# Altium footprint library HD301_driver.PcbLib: 20 footprints (part 1 of 2)
Each footprint in its own frame and in the unit in brackets; x right, y up, seen from the top. Pads: shape width x height; smd on the part's side, far side on the other; paste and mask are expansions set on the pad; w line width, h text height; cw(c..) or ccw(c..) is an arc to the next point about the centre after c.
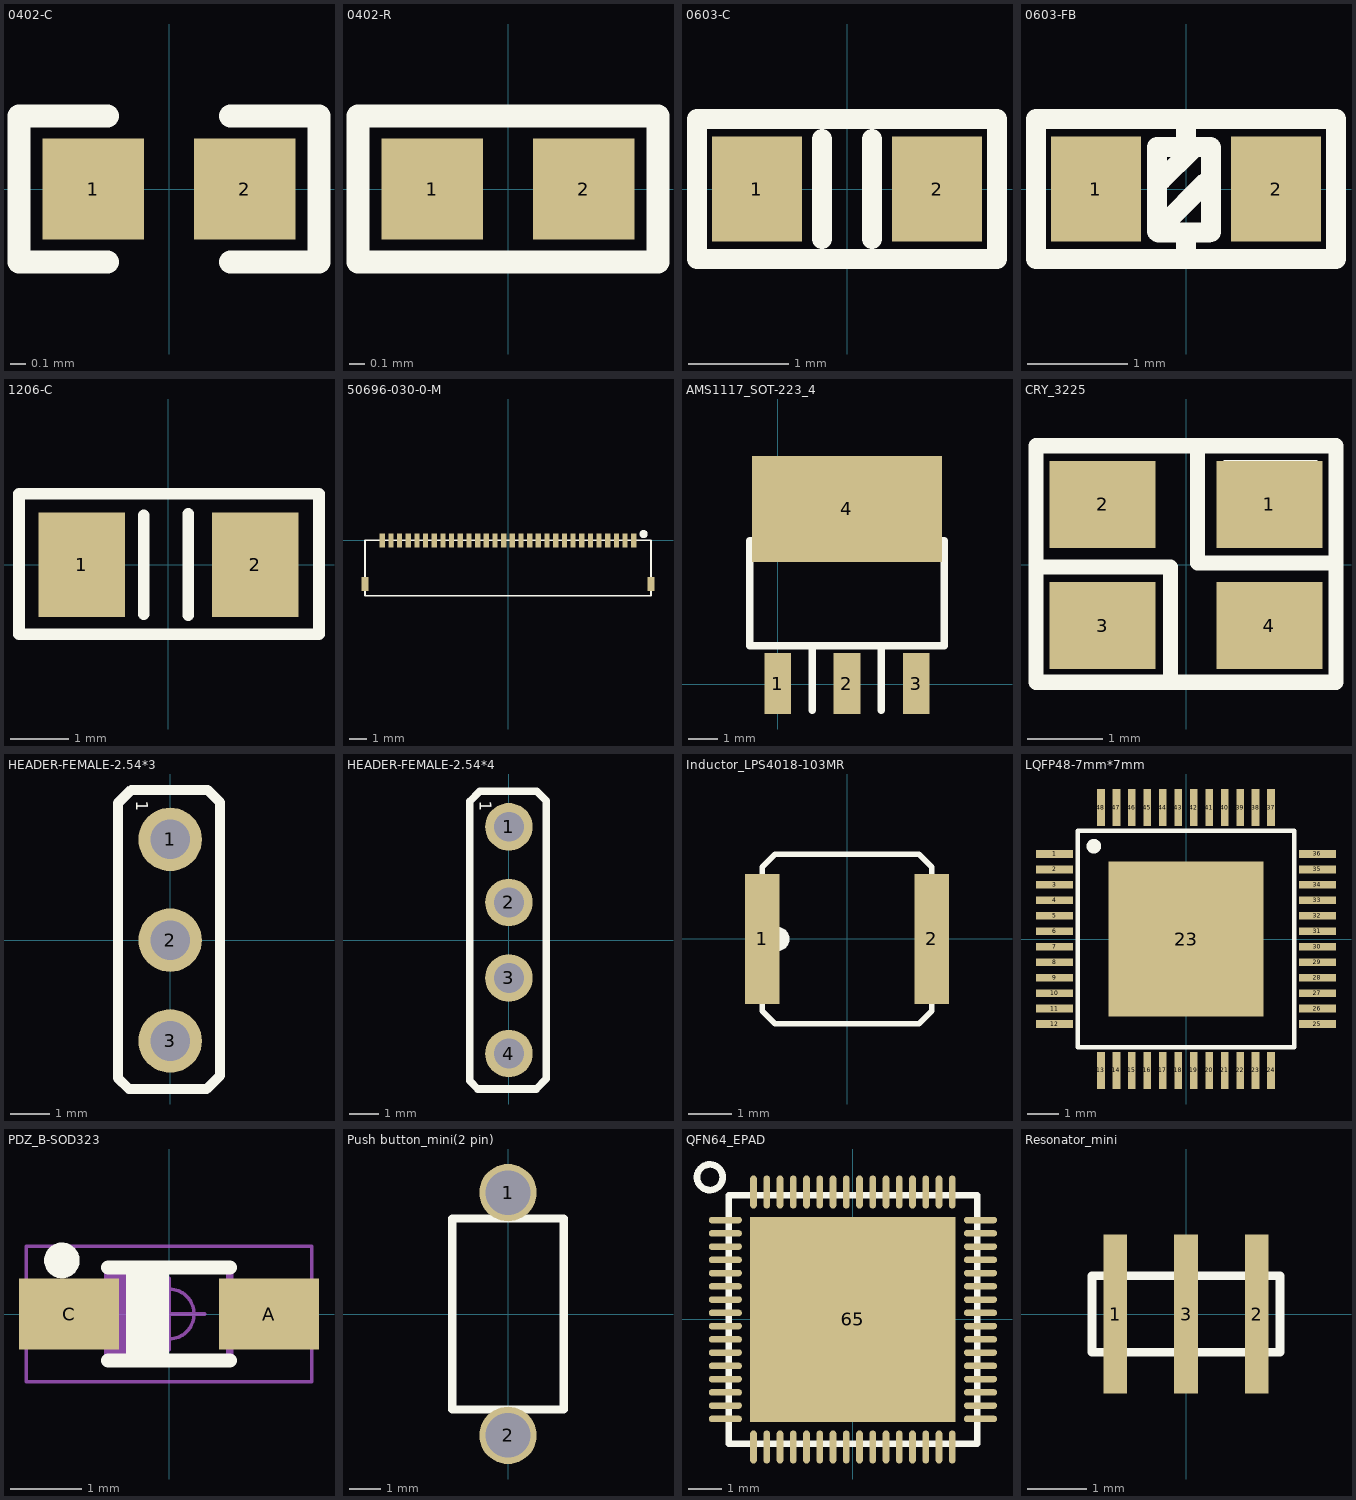
[diagram p0: the footprints below, top view; thin cyan lines are the x and y axes]

## 0402-C [mm]
pads (2):
  rect 0.67x0.67 smd: 1(-0.5,0) 2(0.5,0)
Top Overlay:
  lines w0.15: -0.406,-0.483 -0.991,-0.483 -0.991,0.483 -0.406,0.483 ; 0.406,-0.483 0.991,-0.483 0.991,0.483 0.406,0.483

## 0402-R [mm]
pads (2):
  rect 0.67x0.67 smd: 1(-0.5,0) 2(0.5,0)
Top Overlay:
  lines w0.15: -0.991,-0.483 0.991,-0.483 0.991,0.483 -0.991,0.483 -0.991,-0.483

## 0603-C [mm]
pads (2):
  rect 0.9x1.05 smd mask+0.05: 1(-0.9,0) 2(0.9,0)
Top Overlay:
  lines w0.2: -0.25,-0.5 -0.25,0.5 ; 0.25,-0.5 0.25,0.5 ; -1.5,-0.7 1.5,-0.7 1.5,0.7 -1.5,0.7 -1.5,-0.7

## 0603-FB [mm]
pads (2):
  rect 0.9x1.05 smd mask+0.05: 1(-0.9,0) 2(0.9,0)
Top Overlay:
  lines w0.2: -0.292,-0.425 -0.292,0.418 ; -0.275,-0.435 0.232,-0.435 ; -0.262,0.42 0.245,0.42 ; -0.245,0.089 0.051,0.385 ; -0.23,-0.361 0.198,0.066 ; -0.001,-0.685 -0.001,-0.434 ; -0.001,0.42 -0.001,0.671 ; 0.249,-0.43 0.249,0.413 ; -1.5,-0.7 -1.5,0.7 1.5,0.7 1.5,-0.7 -1.5,-0.7

## 1206-C [mm]
pads (2):
  rect 1.5x1.8 smd: 1(-1.5,0) 2(1.5,0)
Top Overlay:
  lines w0.2: -0.426,-0.852 -0.426,0.857 ; 0.341,-0.869 0.341,0.881 ; -2.584,-1.202 -2.584,1.229 2.603,1.229 2.603,-1.202 -2.584,-1.202

## 50696-030-0-M [mm]
pads (32):
  rect 0.4x0.8 smd: 0(-8.25,-2.52) 0(8.25,-2.52)
  rect 0.3x0.8 smd: 1(7.25,-0.02) 2(6.75,-0.02) 3(6.25,-0.02) 4(5.75,-0.02) 5(5.25,-0.02) 6(4.75,-0.02) 7(4.25,-0.02) 8(3.75,-0.02) 9(3.25,-0.02) 10(2.75,-0.02) 11(2.25,-0.02) 12(1.75,-0.02) 13(1.25,-0.02) 14(0.75,-0.02) 15(0.25,-0.02) 16(-0.25,-0.02) 17(-0.75,-0.02) 18(-1.25,-0.02) 19(-1.75,-0.02) 20(-2.25,-0.02) 21(-2.75,-0.02) 22(-3.25,-0.02) 23(-3.75,-0.02) 24(-4.25,-0.02) 25(-4.75,-0.02) 26(-5.25,-0.02) 27(-5.75,-0.02) 28(-6.25,-0.02) 29(-6.75,-0.02) 30(-7.25,-0.02)
Top Overlay:
  circle w0.254: c7.82,0.36 r0.108
  lines w0.1: -8.25,-3.2 8.25,-3.2 8.25,0 -8.25,0 -8.25,-3.2

## AMS1117_SOT-223_4 [mil]
pads (4):
  rect 35x80 smd: 1(0.46,0.53) 2(91.46,0.53) 3(182.46,0.53)
  rect 250x140 smd: 4(91.46,230.53)
Top Overlay:
  lines w10: 45.46,-34.47 45.46,50.53 ; 136.46,-34.47 136.46,50.53 ; -36.54,50.53 91.46,50.53 219.46,50.53 219.46,188.53 -36.54,188.53 -36.54,50.53

## CRY_3225 [mm]
pads (4):
  rect 1.4x1.15 smd: 1(1.1,0.8) 2(-1.1,0.8) 3(-1.1,-0.8) 4(1.1,-0.8)
Top Overlay:
  lines w0.127: 0.519,1.322 1.713,1.322 1.116,0.725 0.519,1.322
  lines w0.2: -1.93,-0.025 -0.203,-0.025 -0.203,-1.524 ; 0.152,0.025 0.152,1.575 ; 0.178,0.025 1.956,0.025 ; -1.981,-1.549 1.981,-1.549 1.981,1.575 -1.981,1.575 -1.981,-1.549

## HEADER-FEMALE-2.54*3 [mm]
pads (3):
  round 1.6 hole 1: 1(0,2.54) 2(0,0) 3(0,-2.54)
Top Overlay:
  lines w0.254: -1.32,-3.47 -1.32,3.45 -0.98,3.79 0.94,3.79 1.26,3.47 1.26,-3.41 0.92,-3.75 -1.04,-3.75 -1.32,-3.47
  text "1" at -0.86,3.51 h0.3
3D body: height 9, standoff -1, extent -0.397,-0.399 0.4,0.399
3D body: height 9, standoff -1, extent -0.397,2.141 0.4,2.939
3D body: height 9, standoff -1, extent -0.397,-2.939 0.4,-2.141
3D body: height 3, standoff 0.5, extent -1.46,-3.75 1.26,3.79

## HEADER-FEMALE-2.54*4 [mm]
pads (4):
  round 1.6 hole 1: 1(0,3.81) 2(0,1.27) 3(0,-1.27) 4(0,-3.81)
Top Overlay:
  lines w0.254: -1.32,-4.72 -1.04,-5 0.92,-5 1.26,-4.66 1.26,4.68 0.94,5 -0.98,5 -1.32,4.66 -1.32,-4.72
  text "1" at -0.98,4.68 h0.4
3D body: height 3, standoff 0.5, extent -1.32,-5 1.26,5
3D body: height 9, standoff -1, extent -0.397,3.411 0.4,4.209
3D body: height 9, standoff -1, extent -0.397,-4.209 0.4,-3.411
3D body: height 9, standoff -1, extent -0.397,0.871 0.4,1.669
3D body: height 9, standoff -1, extent -0.397,-1.669 0.4,-0.871

## Inductor_LPS4018-103MR [mm]
pads (2):
  rect 0.8x3 smd: 1(-1.95,0) 2(1.95,0)
Top Overlay:
  circle w0.254: c-1.6,0 r0.152
  lines w0.127: -1.95,-1.65 -1.95,1.65 -1.65,1.95 1.65,1.95 1.95,1.65 1.95,-1.65 1.65,-1.95 -1.65,-1.95 -1.95,-1.65
3D body: height 2.5, standoff 0.1, extent -1.95,-1.95 1.95,1.95

## LQFP48-7mm*7mm [mm]
pads (49):
  rect 1.2x0.25 smd: 1(-4.25,2.75) 2(-4.25,2.25) 3(-4.25,1.75) 4(-4.25,1.25) 5(-4.25,0.75) 6(-4.25,0.25) 7(-4.25,-0.25) 8(-4.25,-0.75) 9(-4.25,-1.25) 10(-4.25,-1.75) 11(-4.25,-2.25) 12(-4.25,-2.75) 25(4.25,-2.75) 26(4.25,-2.25) 27(4.25,-1.75) 28(4.25,-1.25) 29(4.25,-0.75) 30(4.25,-0.25) 31(4.25,0.25) 32(4.25,0.75) 33(4.25,1.25) 34(4.25,1.75) 35(4.25,2.25) 36(4.25,2.75)
  rect 0.25x1.2 smd: 13(-2.75,-4.25) 14(-2.25,-4.25) 15(-1.75,-4.25) 16(-1.25,-4.25) 17(-0.75,-4.25) 18(-0.25,-4.25) 19(0.25,-4.25) 20(0.75,-4.25) 21(1.25,-4.25) 22(1.75,-4.25) 23(2.25,-4.25) 24(2.75,-4.25) 37(2.75,4.25) 38(2.25,4.25) 39(1.75,4.25) 40(1.25,4.25) 41(0.75,4.25) 42(0.25,4.25) 43(-0.25,4.25) 44(-0.75,4.25) 45(-1.25,4.25) 46(-1.75,4.25) 47(-2.25,4.25) 48(-2.75,4.25)
  rect 5x5 smd: 23(0,0)
Top Overlay:
  circle w0.254: c-2.98,3 r0.108
  lines w0.152: -3.5,-3.5 3.5,-3.5 3.5,3.5 -3.5,3.5 -3.5,-3.5
3D body: height 0.5, standoff 0.1, extent -4.5,-2.86 -3.5,-2.64
3D body: height 0.5, standoff 0.1, extent 2.64,-4.52 2.86,-3.5
3D body: height 0.5, standoff 0.1, extent 3.5,2.64 4.48,2.86
3D body: height 0.5, standoff 0.1, extent -2.86,3.5 -2.64,4.46
3D body: height 0.5, standoff 0.1, extent -2.36,3.5 -2.14,4.46
3D body: height 0.5, standoff 0.1, extent -1.86,3.5 -1.64,4.46
3D body: height 0.5, standoff 0.1, extent -1.36,3.5 -1.14,4.46
3D body: height 0.5, standoff 0.1, extent -0.86,3.5 -0.64,4.46
3D body: height 0.5, standoff 0.1, extent -0.36,3.5 -0.14,4.46
3D body: height 0.5, standoff 0.1, extent 0.14,3.5 0.36,4.48
3D body: height 0.5, standoff 0.1, extent 0.64,3.5 0.86,4.46
3D body: height 0.5, standoff 0.1, extent 1.14,3.5 1.36,4.46
3D body: height 0.5, standoff 0.1, extent 1.64,3.5 1.86,4.44
3D body: height 0.5, standoff 0.1, extent 2.14,3.5 2.36,4.46
3D body: height 0.5, standoff 0.1, extent 2.64,3.5 2.86,4.46
3D body: height 0.5, standoff 0.1, extent 3.5,2.14 4.48,2.36
3D body: height 0.5, standoff 0.1, extent 3.5,1.64 4.48,1.86
3D body: height 0.5, standoff 0.1, extent 3.5,1.14 4.48,1.36
3D body: height 0.5, standoff 0.1, extent 3.5,0.64 4.5,0.86
3D body: height 0.5, standoff 0.1, extent 3.5,0.14 4.46,0.36
3D body: height 0.5, standoff 0.1, extent 3.5,-0.36 4.48,-0.14
3D body: height 0.5, standoff 0.1, extent 3.5,-0.86 4.48,-0.64
3D body: height 0.5, standoff 0.1, extent 3.5,-1.36 4.46,-1.14
3D body: height 0.5, standoff 0.1, extent 3.5,-1.86 4.46,-1.64
3D body: height 0.5, standoff 0.1, extent 3.5,-2.36 4.48,-2.14
3D body: height 0.5, standoff 0.1, extent 3.5,-2.86 4.46,-2.64
3D body: height 0.5, standoff 0.1, extent 2.14,-4.5 2.36,-3.5
3D body: height 0.5, standoff 0.1, extent 1.64,-4.5 1.86,-3.5
3D body: height 0.5, standoff 0.1, extent 1.14,-4.52 1.36,-3.5
3D body: height 0.5, standoff 0.1, extent 0.64,-4.5 0.86,-3.5
3D body: height 0.5, standoff 0.1, extent 0.14,-4.5 0.36,-3.5
3D body: height 0.5, standoff 0.1, extent -0.36,-4.48 -0.14,-3.5
3D body: height 0.5, standoff 0.1, extent -0.86,-4.48 -0.64,-3.5
3D body: height 0.5, standoff 0.1, extent -1.36,-4.46 -1.14,-3.5
3D body: height 0.5, standoff 0.1, extent -1.86,-4.46 -1.64,-3.5
3D body: height 0.5, standoff 0.1, extent -2.36,-4.44 -2.14,-3.5
3D body: height 0.5, standoff 0.1, extent -2.86,-4.42 -2.64,-3.5
3D body: height 0.5, standoff 0.1, extent -4.5,-2.36 -3.5,-2.14
3D body: height 0.5, standoff 0.1, extent -4.5,-1.86 -3.5,-1.64
3D body: height 0.5, standoff 0.1, extent -4.5,-1.36 -3.5,-1.14
3D body: height 0.5, standoff 0.1, extent -4.5,-0.86 -3.5,-0.64
3D body: height 0.5, standoff 0.1, extent -4.48,-0.36 -3.5,-0.14
3D body: height 0.5, standoff 0.1, extent -4.48,0.14 -3.5,0.36
3D body: height 0.5, standoff 0.1, extent -4.48,0.64 -3.5,0.86
3D body: height 0.5, standoff 0.1, extent -4.46,1.14 -3.5,1.36
3D body: height 0.5, standoff 0.1, extent -4.46,1.64 -3.5,1.86
3D body: height 0.5, standoff 0.1, extent -4.44,2.14 -3.5,2.36
3D body: height 0.5, standoff 0.1, extent -4.46,2.64 -3.5,2.86
3D body: height 1.5, standoff 0.1, extent -3.5,-3.46 3.5,3.52

## PDZ_B-SOD323 [mm]
height 1.1
pads (2):
  rect 1.4x1 smd: A(1.4,0) C(-1.4,0)
Top Overlay:
  circle w0.25: c-1.5,0.75 r0.125
  lines w0.2: -0.85,-0.65 0.85,-0.65 ; -0.85,0.65 0.85,0.65 ; -0.5,-0.65 -0.5,0.65 ; -0.3,-0.65 -0.3,0.65 ; -0.1,-0.65 -0.1,0.65
Mechanical 1:
  lines w0.1: -0.75,-0.625 -0.75,0.625 ; -0.65,-0.625 -0.65,0.625 ; -0.55,-0.625 -0.55,0.625 ; -0.45,-0.625 -0.45,0.625 ; -0.35,-0.625 -0.35,0.625 ; -0.25,-0.625 -0.25,0.625 ; -0.15,-0.625 -0.15,0.625 ; -0.85,-0.625 -0.85,0.625 ; -0.85,-0.625 -0.85,0.625 ; -0.85,-0.625 0.85,-0.625 0.85,0.625 -0.85,0.625
Mechanical 16:
  circle w0.05: c0,0 r0.35
  lines w0.001: -0.9,-0.675 -0.9,0.675 0.9,0.675 0.9,-0.675 -0.9,-0.675
  lines w0.05: -0.5,0 0.5,0 ; 0,-0.5 0,0.5 ; -2,-0.95 -2,0.95 2,0.95 2,-0.95 -2,-0.95

## Push button_mini(2 pin) [mm]
pads (2):
  round 1.8 hole 1.4: 1(0,3.81) 2(0,-3.81)
Top Overlay:
  lines w0.254: -1.75,-3 1.75,-3 1.75,3 -1.75,3 -1.75,-3
3D body: height 3, standoff 0.1, extent -0.28,-1.1 0.28,0.96
3D body: height 2.5, standoff 0.1, extent -1.68,-3 1.72,2.995

## QFN64_EPAD [mm]
pads (65):
  oval 1x0.2 smd: 1(-3.85,3) 2(-3.85,2.6) 3(-3.85,2.2) 4(-3.85,1.8) 5(-3.85,1.4) 6(-3.85,1) 7(-3.85,0.6) 8(-3.85,0.2) 9(-3.85,-0.2) 10(-3.85,-0.6) 11(-3.85,-1) 12(-3.85,-1.4) 13(-3.85,-1.8) 14(-3.85,-2.2) 15(-3.85,-2.6) 16(-3.85,-3) 33(3.85,-3) 34(3.85,-2.6) 35(3.85,-2.2) 36(3.85,-1.8) 37(3.85,-1.4) 38(3.85,-1) 39(3.85,-0.6) 40(3.85,-0.2) 41(3.85,0.2) 42(3.85,0.6) 43(3.85,1) 44(3.85,1.4) 45(3.85,1.8) 46(3.85,2.2) 47(3.85,2.6) 48(3.85,3)
  oval 0.2x1 smd: 17(-3,-3.85) 18(-2.6,-3.85) 19(-2.2,-3.85) 20(-1.8,-3.85) 21(-1.4,-3.85) 22(-1,-3.85) 23(-0.6,-3.85) 24(-0.2,-3.85) 25(0.2,-3.85) 26(0.6,-3.85) 27(1,-3.85) 28(1.4,-3.85) 29(1.8,-3.85) 30(2.2,-3.85) 31(2.6,-3.85) 32(3,-3.85) 49(3,3.85) 50(2.6,3.85) 51(2.2,3.85) 52(1.8,3.85) 53(1.4,3.85) 54(1,3.85) 55(0.6,3.85) 56(0.2,3.85) 57(-0.2,3.85) 58(-0.6,3.85) 59(-1,3.85) 60(-1.4,3.85) 61(-1.8,3.85) 62(-2.2,3.85) 63(-2.6,3.85) 64(-3,3.85)
  rect 6.2x6.2 smd: 65(0,0)
Top Overlay:
  circle w0.2: c-4.318,4.293 r0.388
  lines w0.2: -3.75,-3.75 3.75,-3.75 3.75,3.75 -3.75,3.75 -3.75,-3.75

## Resonator_mini [mm]
pads (3):
  rect 0.4x2.7 smd: 1(-1.2,0) 2(1.2,0) 3(0,0)
Top Overlay:
  lines w0.152: -1.6,-0.65 1.6,-0.65 1.6,0.65 -1.6,0.65 -1.6,-0.65
3D body: height 2.5, standoff 0.1, extent -1.58,-0.66 1.6,0.64